# EAGLE library part TPS6112XQFN (library xess)
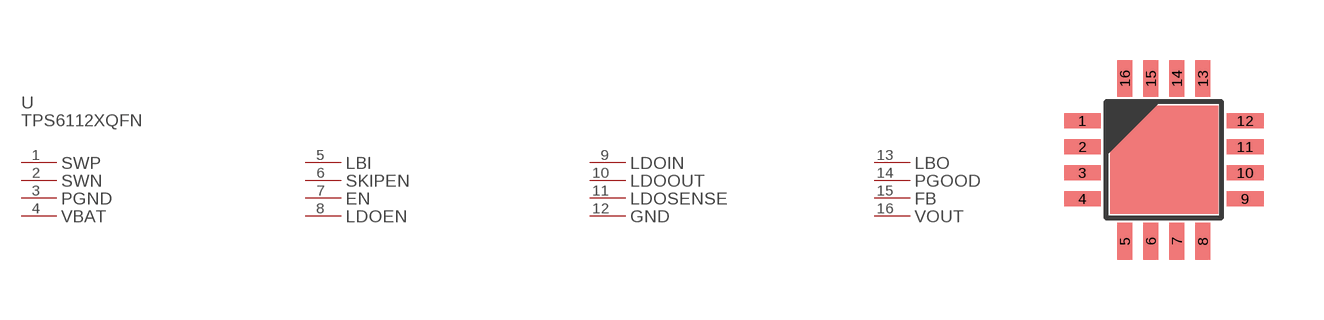
[diagram p77: symbol with the pads of TPS6112XQFN; footprint TPS6112XQFN]

Designator prefix U; gates PART_VALUE=PART_VALUE-TPS6112XQFN SWP=PL-TPS6112XQFN SWN=PL-TPS6112XQFN PGND=PL-TPS6112XQFN VBAT=PL-TPS6112XQFN LBI=PL-TPS6112XQFN SKIPEN=PL-TPS6112XQFN EN=PL-TPS6112XQFN LDOEN=PL-TPS6112XQFN LDOIN=PL-TPS6112XQFN LDOOUT=PL-TPS6112XQFN LDOSENSE=PL-TPS6112XQFN GND=PL-TPS6112XQFN LBO=PL-TPS6112XQFN PGOOD=PL-TPS6112XQFN FB=PL-TPS6112XQFN VOUT=PL-TPS6112XQFN

## TPS6112XQFN  [TPS6112XQFN]
1  SWP:P$1
2  SWN:P$1
3  PGND:P$1
4  VBAT:P$1
5  LBI:P$1
6  SKIPEN:P$1
7  EN:P$1
8  LDOEN:P$1
9  LDOIN:P$1
10  LDOOUT:P$1
11  LDOSENSE:P$1
12  GND:P$1
13  LBO:P$1
14  PGOOD:P$1
15  FB:P$1
16  VOUT:P$1

## Footprint TPS6112XQFN (pad centres in mm)
smd 0.92 x 0.38: 1 -0.21,0; 2 -0.21,-0.65; 3 -0.21,-1.3; 4 -0.21,-1.95; 9 3.86,-1.95; 10 3.86,-1.3; 11 3.86,-0.65; 12 3.86,0
smd 0.38 x 0.92: 5 0.85,-3.01; 6 1.5,-3.01; 7 2.15,-3.01; 8 2.8,-3.01; 13 2.8,1.06; 14 2.15,1.06; 15 1.5,1.06; 16 0.85,1.06